# EAGLE library part 690367181072 (library Wuerth_Elektronik_eiCan_MiniModule_Connectors_v1.2)
WR-MM Female Connector without Latch and without Polarization, 10 Pins
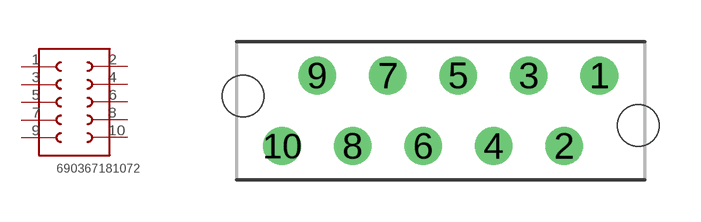
[diagram p4: symbol with the pads of 690367181072; footprint 690367181072]

Designator prefix K

## 690367181072  [690367181072]
1  1  pas
2  10  pas
3  2  pas
4  9  pas
5  3  pas
6  8  pas
7  4  pas
8  7  pas
9  5  pas
10  6  pas

## Footprint 690367181072 (pad centres in mm)
WR-MM Female Connector without Latch and without Polarization, 10 Pins
drill 0.85 round: 1 6.985,1.27; 2 5.715,-1.27; 3 4.445,1.27; 4 3.175,-1.27; 5 1.905,1.27; 6 0.635,-1.27; 7 -0.635,1.27; 8 -1.905,-1.27; 9 -3.175,1.27; 10 -4.445,-1.27
hole 1.5 at 8.385,-0.53
hole 1.5 at -5.845,0.53